# Altium integrated library Varios.IntLib: 1 symbol
Pins are listed as number, name and electrical type; pins without a type are passive.

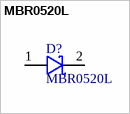
[diagram p0: symbol MBR0520L]

## MBR0520L
designator D?
Schottky Recrifier; Manufacturer: Fairchild Semiconductor; Auth.: ROUX, Federico G.; mail: rouxfederico@gmail.com; Company: NEROX S.R.L.; Description: MBR0520L Schottky Rectifier 0.5A 400mW; Part: MBR0520L; Dat.: 24.10.2011; URL: http://www.fairchildsemi.com/
footprint SOD123 (SOD-123; 2 Leads; Body 2.7 x 1.6 mm, (LxW))
pins: 1 ANODE, 2 CATHODE